# Altium schematic symbol library CC2541.SchLib: 1 symbol
Pins are listed as number, name and electrical type; pins without a type are passive.

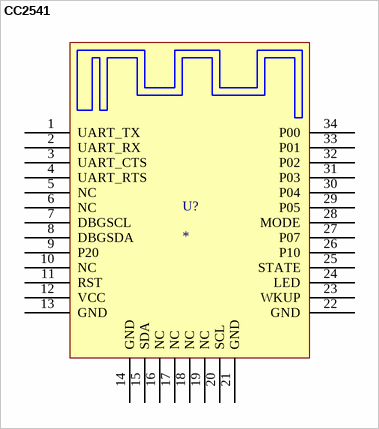
[diagram p0: symbol CC2541]

## CC2541
designator U?
footprint CC2541
pins: 1 UART_TX, 2 UART_RX, 3 UART_CTS, 4 UART_RTS, 5 NC, 6 NC, 7 DBGSCL, 8 DBGSDA, 9 P20, 10 NC, 11 RST, 12 VCC, 13 GND, 14 GND, 15 SDA, 16 NC, 17 NC, 18 NC, 19 NC, 20 SCL, 21 GND, 22 GND, 23 WKUP, 24 LED, 25 STATE, 26 P10, 27 P07, 28 MODE, 29 P05, 30 P04, 31 P03, 32 P02, 33 P01, 34 P00